# Altium schematic symbol library Schlib_ISSI.SchLib: 9 symbols
Pins are listed as number, name and electrical type; pins without a type are passive.

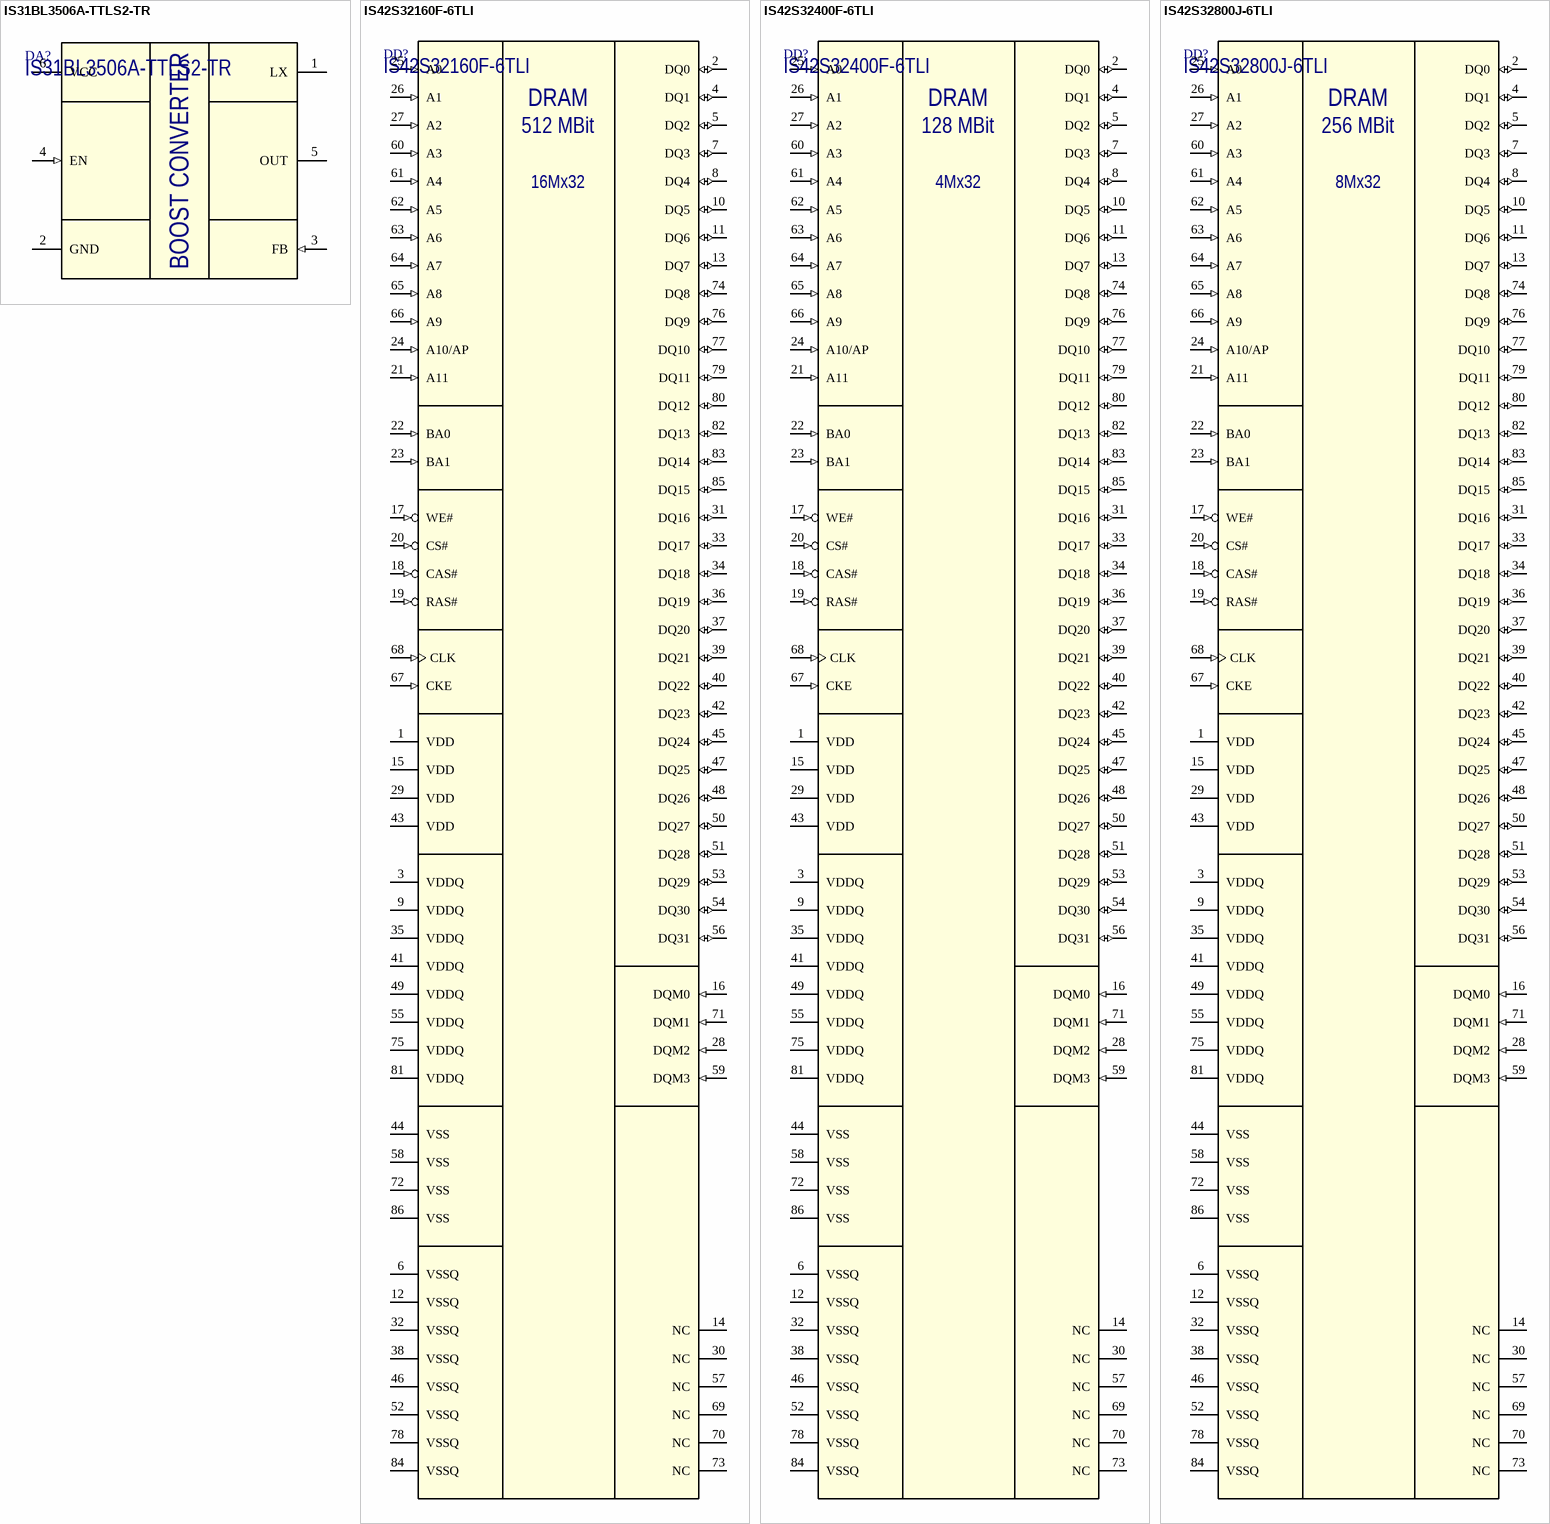
[diagram p0: symbols IS31BL3506A-TTLS2-TR to IS42S32800J-6TLI]

## IS31BL3506A-TTLS2-TR
designator DA?
1.0MHz Boost Converter With 35V Internal MOSFET Switch; Manufacturer: ISSI, Integrated Silicon Solution Inc; Package: TSOT-23-6; Part Number: IS31BL3506A-TTLS2-TR
footprint TSOT23-6
pins: 1 LX, 2 GND (power), 3 FB (in), 4 EN (in), 5 OUT (power), 6 VCC (power)
text: BOOST CONVERTER

## IS42S32160F-6TLI
designator DD?
High-speed synchronous DRAM 512Mb (16Mx32); Manufacturer: ISSI, Integrated Silicon Solution Inc; Clock Frequency: 167 MHz; Access Time: 5.4ns; Package: TSOP-86 II; Part Number: IS42S32160F-6TLI
footprint TSOP-86 II (TSOP, 86-Leads, Body 22,22x10,16mm, Pitch 0,50mm, IPC Medium Density)
pins: 1 VDD (power), 2 DQ0 (io), 3 VDDQ (power), 4 DQ1 (io), 5 DQ2 (io), 6 VSSQ (power), 7 DQ3 (io), 8 DQ4 (io), 9 VDDQ (power), 10 DQ5 (io), 11 DQ6 (io), 12 VSSQ (power), 13 DQ7 (io), 14 NC (hiz), 15 VDD (power), 16 DQM0 (in), 17 WE# (in), 18 CAS# (in), 19 RAS# (in), 20 CS# (in), 21 A11 (in), 22 BA0 (in), 23 BA1 (in), 24 A10/AP (in), 25 A0 (in), 26 A1 (in), 27 A2 (in), 28 DQM2 (in), 29 VDD (power), 30 NC (hiz), 31 DQ16 (io), 32 VSSQ (power), 33 DQ17 (io), 34 DQ18 (io), 35 VDDQ (power), 36 DQ19 (io), 37 DQ20 (io), 38 VSSQ (power), 39 DQ21 (io), 40 DQ22 (io), 41 VDDQ (power), 42 DQ23 (io), 43 VDD (power), 44 VSS (power), 45 DQ24 (io), 46 VSSQ (power), 47 DQ25 (io), 48 DQ26 (io), 49 VDDQ (power), 50 DQ27 (io), 51 DQ28 (io), 52 VSSQ (power), 53 DQ29 (io), 54 DQ30 (io), 55 VDDQ (power), 56 DQ31 (io), 57 NC (hiz), 58 VSS (power), 59 DQM3 (in), 60 A3 (in), 61 A4 (in), 62 A5 (in), 63 A6 (in), 64 A7 (in), 65 A8 (in), 66 A9 (in), 67 CKE (in), 68 CLK (in), 69 NC (hiz), 70 NC (hiz), 71 DQM1 (in), 72 VSS (power), 73 NC (hiz), 74 DQ8 (io), 75 VDDQ (power), 76 DQ9 (io), 77 DQ10 (io), 78 VSSQ (power), 79 DQ11 (io), 80 DQ12 (io), 81 VDDQ (power), 82 DQ13 (io), 83 DQ14 (io), 84 VSSQ (power), 85 DQ15 (io), 86 VSS (power)
text: DRAM; 512 MBit; 16Mx32

## IS42S32400F-6TLI
designator DD?
High-speed synchronous DRAM 128Mb (4Mx32); Manufacturer: ISSI, Integrated Silicon Solution Inc; Clock Frequency: 166 MHz; Access Time: 5.4ns; Package: TSOP-86 II; Part Number: IS42S32400F-6TLI
footprint TSOP-86 II (TSOP, 86-Leads, Body 22,22x10,16mm, Pitch 0,50mm, IPC Medium Density)
pins: 1 VDD (power), 2 DQ0 (io), 3 VDDQ (power), 4 DQ1 (io), 5 DQ2 (io), 6 VSSQ (power), 7 DQ3 (io), 8 DQ4 (io), 9 VDDQ (power), 10 DQ5 (io), 11 DQ6 (io), 12 VSSQ (power), 13 DQ7 (io), 14 NC (hiz), 15 VDD (power), 16 DQM0 (in), 17 WE# (in), 18 CAS# (in), 19 RAS# (in), 20 CS# (in), 21 A11 (in), 22 BA0 (in), 23 BA1 (in), 24 A10/AP (in), 25 A0 (in), 26 A1 (in), 27 A2 (in), 28 DQM2 (in), 29 VDD (power), 30 NC (hiz), 31 DQ16 (io), 32 VSSQ (power), 33 DQ17 (io), 34 DQ18 (io), 35 VDDQ (power), 36 DQ19 (io), 37 DQ20 (io), 38 VSSQ (power), 39 DQ21 (io), 40 DQ22 (io), 41 VDDQ (power), 42 DQ23 (io), 43 VDD (power), 44 VSS (power), 45 DQ24 (io), 46 VSSQ (power), 47 DQ25 (io), 48 DQ26 (io), 49 VDDQ (power), 50 DQ27 (io), 51 DQ28 (io), 52 VSSQ (power), 53 DQ29 (io), 54 DQ30 (io), 55 VDDQ (power), 56 DQ31 (io), 57 NC (hiz), 58 VSS (power), 59 DQM3 (in), 60 A3 (in), 61 A4 (in), 62 A5 (in), 63 A6 (in), 64 A7 (in), 65 A8 (in), 66 A9 (in), 67 CKE (in), 68 CLK (in), 69 NC (hiz), 70 NC (hiz), 71 DQM1 (in), 72 VSS (power), 73 NC (hiz), 74 DQ8 (io), 75 VDDQ (power), 76 DQ9 (io), 77 DQ10 (io), 78 VSSQ (power), 79 DQ11 (io), 80 DQ12 (io), 81 VDDQ (power), 82 DQ13 (io), 83 DQ14 (io), 84 VSSQ (power), 85 DQ15 (io), 86 VSS (power)
text: DRAM; 128 MBit; 4Mx32

## IS42S32800J-6TLI
designator DD?
High-speed synchronous DRAM 256Mb (8Mx32); Manufacturer: ISSI, Integrated Silicon Solution Inc; Clock Frequency: 166 MHz; Access Time: 5.4ns; Package: TSOP-86 II; Part Number: IS42S32800J-6TLI
footprint TSOP-86 II (TSOP, 86-Leads, Body 22,22x10,16mm, Pitch 0,50mm, IPC Medium Density)
pins: 1 VDD (power), 2 DQ0 (io), 3 VDDQ (power), 4 DQ1 (io), 5 DQ2 (io), 6 VSSQ (power), 7 DQ3 (io), 8 DQ4 (io), 9 VDDQ (power), 10 DQ5 (io), 11 DQ6 (io), 12 VSSQ (power), 13 DQ7 (io), 14 NC (hiz), 15 VDD (power), 16 DQM0 (in), 17 WE# (in), 18 CAS# (in), 19 RAS# (in), 20 CS# (in), 21 A11 (in), 22 BA0 (in), 23 BA1 (in), 24 A10/AP (in), 25 A0 (in), 26 A1 (in), 27 A2 (in), 28 DQM2 (in), 29 VDD (power), 30 NC (hiz), 31 DQ16 (io), 32 VSSQ (power), 33 DQ17 (io), 34 DQ18 (io), 35 VDDQ (power), 36 DQ19 (io), 37 DQ20 (io), 38 VSSQ (power), 39 DQ21 (io), 40 DQ22 (io), 41 VDDQ (power), 42 DQ23 (io), 43 VDD (power), 44 VSS (power), 45 DQ24 (io), 46 VSSQ (power), 47 DQ25 (io), 48 DQ26 (io), 49 VDDQ (power), 50 DQ27 (io), 51 DQ28 (io), 52 VSSQ (power), 53 DQ29 (io), 54 DQ30 (io), 55 VDDQ (power), 56 DQ31 (io), 57 NC (hiz), 58 VSS (power), 59 DQM3 (in), 60 A3 (in), 61 A4 (in), 62 A5 (in), 63 A6 (in), 64 A7 (in), 65 A8 (in), 66 A9 (in), 67 CKE (in), 68 CLK (in), 69 NC (hiz), 70 NC (hiz), 71 DQM1 (in), 72 VSS (power), 73 NC (hiz), 74 DQ8 (io), 75 VDDQ (power), 76 DQ9 (io), 77 DQ10 (io), 78 VSSQ (power), 79 DQ11 (io), 80 DQ12 (io), 81 VDDQ (power), 82 DQ13 (io), 83 DQ14 (io), 84 VSSQ (power), 85 DQ15 (io), 86 VSS (power)
text: DRAM; 256 MBit; 8Mx32

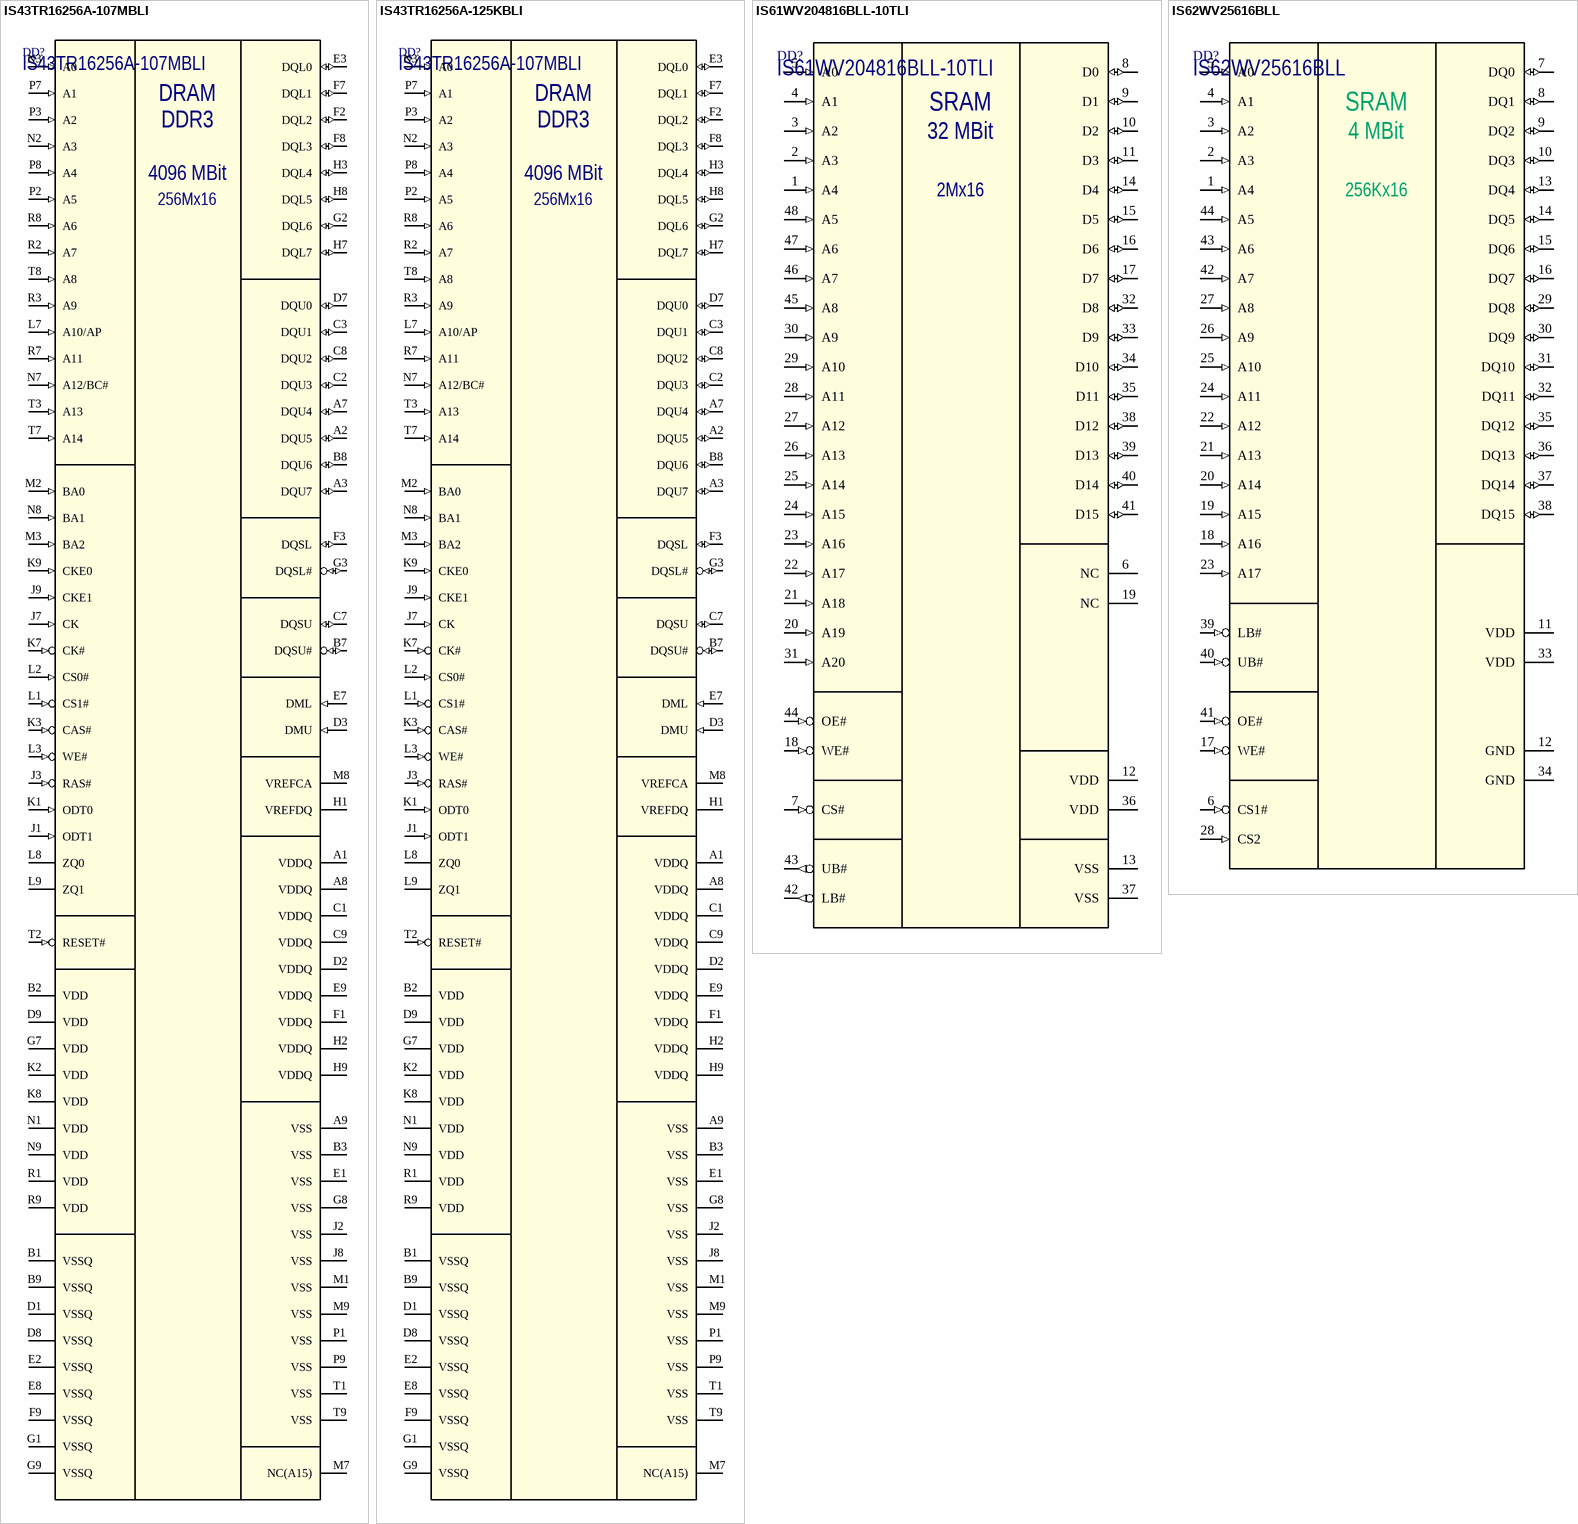
[diagram p1: symbols IS43TR16256A-107MBLI to IS62WV25616BLL]

## IS43TR16256A-107MBLI
designator DD?
256Mx16 4Gb DDR3 SDRAM; Manufacturer: ISSI, Integrated Silicon Solution Inc; Package: TFBGA-96 (9x13mm); Part Number: IS43TR16256A-107MBLI
footprint TFBGA-96 (TFBGA-96 package with 0.8mm pitch, 9x13mm)
pins: A1 VDDQ (power), A2 DQU5 (io), A3 DQU7 (io), A7 DQU4 (io), A8 VDDQ (power), A9 VSS (power), B1 VSSQ (power), B2 VDD (power), B3 VSS (power), B7 DQSU# (io), B8 DQU6 (io), B9 VSSQ (power), C1 VDDQ (power), C2 DQU3 (io), C3 DQU1 (io), C7 DQSU (io), C8 DQU2 (io), C9 VDDQ (power), D1 VSSQ (power), D2 VDDQ (power), D3 DMU (in), D7 DQU0 (io), D8 VSSQ (power), D9 VDD (power), E1 VSS (power), E2 VSSQ (power), E3 DQL0 (io), E7 DML (in), E8 VSSQ (power), E9 VDDQ (power), F1 VDDQ (power), F2 DQL2 (io), F3 DQSL (io), F7 DQL1 (io), F8 DQL3 (io), F9 VSSQ (power), G1 VSSQ (power), G2 DQL6 (io), G3 DQSL# (io), G7 VDD (power), G8 VSS (power), G9 VSSQ (power), H1 VREFDQ (power), H2 VDDQ (power), H3 DQL4 (io), H7 DQL7 (io), H8 DQL5 (io), H9 VDDQ (power), J1 ODT1 (in), J2 VSS (power), J3 RAS# (in), J7 CK (in), J8 VSS (power), J9 CKE1 (in), K1 ODT0 (in), K2 VDD (power), K3 CAS# (in), K7 CK# (in), K8 VDD (power), K9 CKE0 (in), L1 CS1# (in), L2 CS0# (in), L3 WE# (in), L7 A10/AP (in), L8 ZQ0 (power), L9 ZQ1 (power), M1 VSS (power), M2 BA0 (in), M3 BA2 (in), M7 NC(A15) (hiz), M8 VREFCA (power), M9 VSS (power), N1 VDD (power), N2 A3 (in), N3 A0 (in), N7 A12/BC# (in), N8 BA1 (in), N9 VDD (power), P1 VSS (power), P2 A5 (in), P3 A2 (in), P7 A1 (in), P8 A4 (in), P9 VSS (power), R1 VDD (power), R2 A7 (in), R3 A9 (in), R7 A11 (in), R8 A6 (in), R9 VDD (power), T1 VSS (power), T2 RESET# (in), T3 A13 (in), T7 A14 (in), T8 A8 (in), T9 VSS (power)
text: DRAM; DDR3; 4096 MBit; 256Mx16

## IS43TR16256A-125KBLI
designator DD?, comment IS43TR16256A-107MBLI
256Mx16 4Gb DDR3 SDRAM; Manufacturer: ISSI, Integrated Silicon Solution Inc; Package: TFBGA-96 (9x13mm); Part Number: IS43TR16256A-107MBLI
footprint TFBGA-96 (TFBGA-96 package with 0.8mm pitch, 9x13mm)
pins: A1 VDDQ (power), A2 DQU5 (io), A3 DQU7 (io), A7 DQU4 (io), A8 VDDQ (power), A9 VSS (power), B1 VSSQ (power), B2 VDD (power), B3 VSS (power), B7 DQSU# (io), B8 DQU6 (io), B9 VSSQ (power), C1 VDDQ (power), C2 DQU3 (io), C3 DQU1 (io), C7 DQSU (io), C8 DQU2 (io), C9 VDDQ (power), D1 VSSQ (power), D2 VDDQ (power), D3 DMU (in), D7 DQU0 (io), D8 VSSQ (power), D9 VDD (power), E1 VSS (power), E2 VSSQ (power), E3 DQL0 (io), E7 DML (in), E8 VSSQ (power), E9 VDDQ (power), F1 VDDQ (power), F2 DQL2 (io), F3 DQSL (io), F7 DQL1 (io), F8 DQL3 (io), F9 VSSQ (power), G1 VSSQ (power), G2 DQL6 (io), G3 DQSL# (io), G7 VDD (power), G8 VSS (power), G9 VSSQ (power), H1 VREFDQ (power), H2 VDDQ (power), H3 DQL4 (io), H7 DQL7 (io), H8 DQL5 (io), H9 VDDQ (power), J1 ODT1 (in), J2 VSS (power), J3 RAS# (in), J7 CK (in), J8 VSS (power), J9 CKE1 (in), K1 ODT0 (in), K2 VDD (power), K3 CAS# (in), K7 CK# (in), K8 VDD (power), K9 CKE0 (in), L1 CS1# (in), L2 CS0# (in), L3 WE# (in), L7 A10/AP (in), L8 ZQ0 (power), L9 ZQ1 (power), M1 VSS (power), M2 BA0 (in), M3 BA2 (in), M7 NC(A15) (hiz), M8 VREFCA (power), M9 VSS (power), N1 VDD (power), N2 A3 (in), N3 A0 (in), N7 A12/BC# (in), N8 BA1 (in), N9 VDD (power), P1 VSS (power), P2 A5 (in), P3 A2 (in), P7 A1 (in), P8 A4 (in), P9 VSS (power), R1 VDD (power), R2 A7 (in), R3 A9 (in), R7 A11 (in), R8 A6 (in), R9 VDD (power), T1 VSS (power), T2 RESET# (in), T3 A13 (in), T7 A14 (in), T8 A8 (in), T9 VSS (power)
text: DRAM; DDR3; 4096 MBit; 256Mx16

## IS61WV204816BLL-10TLI
designator DD?
High-speed asynchronous Static RAM 32Mb (2Mx16); Manufacturer: ISSI, Integrated Silicon Solution Inc; Access Time: 10ns; Package: TSOP-48 I; Part Number: IS61WV204816BLL-10TLI
footprint TSOP-48 I (TSSOP, 48-Leads, Body 12,00x18,40mm, Pitch 0,50mm, IPC Medium Density)
pins: 1 A4 (in), 2 A3 (in), 3 A2 (in), 4 A1 (in), 5 A0 (in), 6 NC (hiz), 7 CS# (in), 8 D0 (io), 9 D1 (io), 10 D2 (io), 11 D3 (io), 12 VDD (power), 13 VSS (power), 14 D4 (io), 15 D5 (io), 16 D6 (io), 17 D7 (io), 18 WE# (in), 19 NC (hiz), 20 A19 (in), 21 A18 (in), 22 A17 (in), 23 A16 (in), 24 A15 (in), 25 A14 (in), 26 A13 (in), 27 A12 (in), 28 A11 (in), 29 A10 (in), 30 A9 (in), 31 A20 (in), 32 D8 (io), 33 D9 (io), 34 D10 (io), 35 D11 (io), 36 VDD (power), 37 VSS (power), 38 D12 (io), 39 D13 (io), 40 D14 (io), 41 D15 (io), 42 LB# (out), 43 UB# (out), 44 OE# (in), 45 A8 (in), 46 A7 (in), 47 A6 (in), 48 A5 (in)
text: SRAM; 32 MBit; 2Mx16

## IS62WV25616BLL
designator DD?
256K X 16 Low Voltage, Ultra Low Power CMOS Static SRAM; Manufacturer: ISSI, Integrated Silicon Solution Inc; Access Time: 55ns; Package: TSOP-44 II; Part Number: IS62WV25616BLL
footprint TSOP-44 II
pins: 1 A4 (in), 2 A3 (in), 3 A2 (in), 4 A1 (in), 5 A0 (in), 6 CS1# (in), 7 DQ0 (io), 8 DQ1 (io), 9 DQ2 (io), 10 DQ3 (io), 11 VDD (power), 12 GND (power), 13 DQ4 (io), 14 DQ5 (io), 15 DQ6 (io), 16 DQ7 (io), 17 WE# (in), 18 A16 (in), 19 A15 (in), 20 A14 (in), 21 A13 (in), 22 A12 (in), 23 A17 (in), 24 A11 (in), 25 A10 (in), 26 A9 (in), 27 A8 (in), 28 CS2 (in), 29 DQ8 (io), 30 DQ9 (io), 31 DQ10 (io), 32 DQ11 (io), 33 VDD (power), 34 GND (power), 35 DQ12 (io), 36 DQ13 (io), 37 DQ14 (io), 38 DQ15 (io), 39 LB# (in), 40 UB# (in), 41 OE# (in), 42 A7 (in), 43 A6 (in), 44 A5 (in)
text: SRAM; 4 MBit; 256Kx16

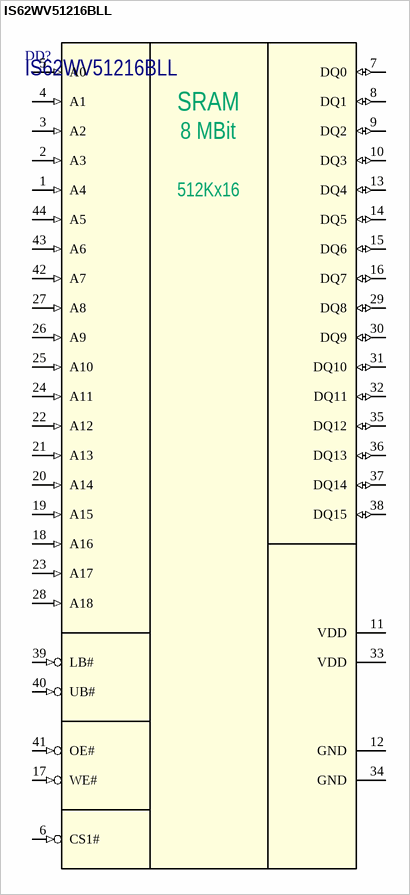
[diagram p2: symbol IS62WV51216BLL]

## IS62WV51216BLL
designator DD?
512K X 16 Low Voltage, Ultra Low Power CMOS Static SRAM; Manufacturer: ISSI, Integrated Silicon Solution Inc; Access Time: 55ns; Package: TSOP-44 II; Part Number: IS62WV51216BLL
footprint TSOP-44 II
pins: 1 A4 (in), 2 A3 (in), 3 A2 (in), 4 A1 (in), 5 A0 (in), 6 CS1# (in), 7 DQ0 (io), 8 DQ1 (io), 9 DQ2 (io), 10 DQ3 (io), 11 VDD (power), 12 GND (power), 13 DQ4 (io), 14 DQ5 (io), 15 DQ6 (io), 16 DQ7 (io), 17 WE# (in), 18 A16 (in), 19 A15 (in), 20 A14 (in), 21 A13 (in), 22 A12 (in), 23 A17 (in), 24 A11 (in), 25 A10 (in), 26 A9 (in), 27 A8 (in), 28 A18 (in), 29 DQ8 (io), 30 DQ9 (io), 31 DQ10 (io), 32 DQ11 (io), 33 VDD (power), 34 GND (power), 35 DQ12 (io), 36 DQ13 (io), 37 DQ14 (io), 38 DQ15 (io), 39 LB# (in), 40 UB# (in), 41 OE# (in), 42 A7 (in), 43 A6 (in), 44 A5 (in)
text: SRAM; 8 MBit; 512Kx16